# EAGLE library part SD-BREAKOUT (library Parts)
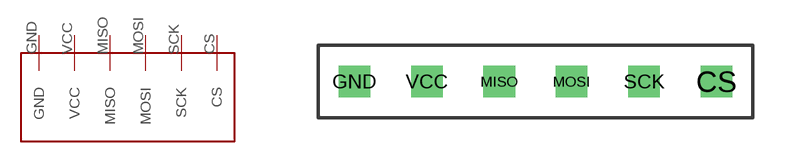
[diagram p0: symbol with the pads of SD-BREAKOUT; footprint SD-BREAKOUT]

Designator prefix -

## SD-BREAKOUT  [SD-BREAKOUT]
CS  CS
GND  GND
MISO  MISO
MOSI  MOSI
SCK  SCK
VCC  VCC

## Footprint SD-BREAKOUT (pad centres in mm)
drill 0.6 square: CS 7.62,1.27; GND -5.08,1.27; MISO 0,1.27; MOSI 2.54,1.27; SCK 5.08,1.27; VCC -2.54,1.27